# EAGLE library part NOKIA_LCD-CONN (library nokia)
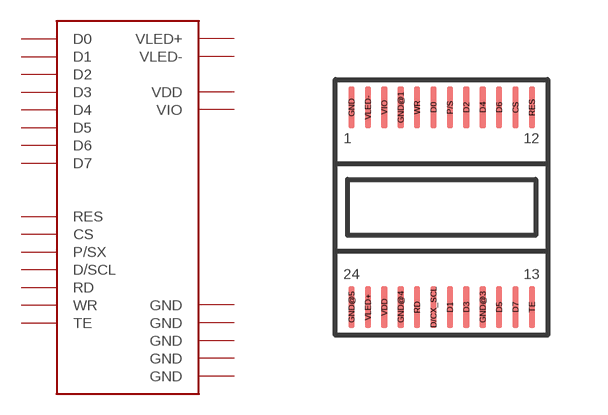
[diagram p0: symbol with the pads of NOKIA3500; footprint NOKIA3500]

Designator prefix -

## NOKIA_LCD-CONN  [NOKIA3500]
CS  CS
D0  D0
D1  D1
D2  D2
D3  D3
D4  D4
D5  D5
D6  D6
D7  D7
D/CX_SCL  D/SCL
GND  GND
GND@1  GND
GND@3  GND
GND@4  GND
GND@5  GND
P/S  P/SX
RD  RD
RES  RES
TE  TE
VDD  VDD
VIO  VIO
VLED+  VLED+
VLED-  VLED-
WR  WR

## Footprint NOKIA3500 (pad centres in mm)
smd 0.16 x 1.05: CS 1.9,2.5; D0 -0.15,2.5; D1 0.26,-2.5; D2 0.67,2.5; D3 0.67,-2.5; D4 1.08,2.5; D5 1.49,-2.5; D6 1.49,2.5; D7 1.9,-2.5; D/CX_SCL -0.15,-2.5; GND -2.2,2.5; GND@1 -0.97,2.5; GND@3 1.08,-2.5; GND@4 -0.97,-2.5; GND@5 -2.2,-2.5; P/S 0.26,2.5; RD -0.56,-2.5; RES 2.31,2.5; TE 2.31,-2.5; VDD -1.38,-2.5; VIO -1.38,2.5; VLED+ -1.79,-2.5; VLED- -1.79,2.5; WR -0.56,2.5